# Altium footprint library INDC200X125X145L50N.PcbLib: 1 footprints
Each footprint in its own frame and in the unit in brackets; x right, y up, seen from the top. Pads: shape width x height; smd on the part's side, far side on the other; paste and mask are expansions set on the pad; w line width, h text height; cw(c..) or ccw(c..) is an arc to the next point about the centre after c.
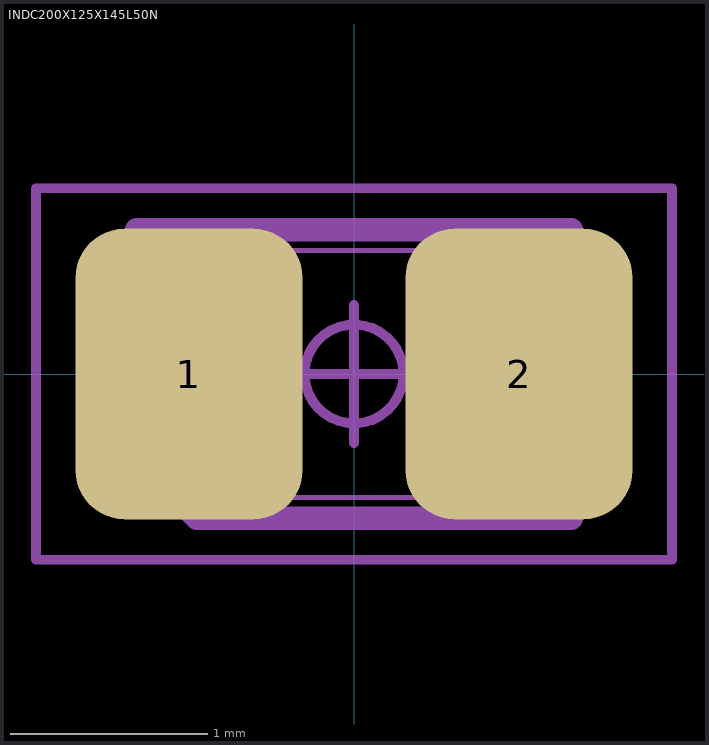
[diagram p0: the footprint, top view; thin cyan lines are the x and y axes]

## INDC200X125X145L50N [mm] "Inductor, Chip; 2.00 mm L X 1.25 mm W X 1.45 mm H body"
height 1.45
pads (2):
  rrect43% 1.15x1.47 smd: 1(-0.835,0) 2(0.835,0)
Mechanical 3:
  lines w0.12: -1.1,-0.424 -0.794,-0.73 1.1,-0.73 1.1,0.73 -1.1,0.73 -1.1,-0.424
Mechanical 5:
  lines w0.025: -1,-0.625 -0.5,-0.625 -0.5,0.625 -1,0.625 ; -1,-0.625 -1,0.625 ; -1,-0.625 -1,0.625 ; -1,-0.625 1,-0.625 ; -1,0.625 1,0.625 ; 1,-0.625 1,0.625 ; 1,-0.625 0.5,-0.625 0.5,0.625 1,0.625 ; 1,-0.625 1,0.625
Mechanical 7:
  circle w0.05: c0,0 r0.25
  lines w0.05: -0.35,0 0.35,0 ; 0,-0.35 0,0.35 ; -1.61,-0.94 -1.61,0.94 1.61,0.94 1.61,-0.94 -1.61,-0.94
Mechanical 9:
  text "'.Designator'" at -5.461,-0.254 h1
3D body "INDC200X125X145L50.STEP": height 1.45, standoff 0, extent -1,-0.625 1,0.625
3D body: height 1, standoff 0, extent -1.61,-0.94 1.61,0.94